# EAGLE library part 61302021121 (library Board-to-Board (rev18a))
WR-PHD 2.54mm Dual Pin Header, 20 Pins =>Code : Con_BTB_PHD_2.54_2_61302021121 <http://katalog.we-online.de/media/images/eican/Con_BTB_PHD_2.54_2_6130xx21121_pf2.jpg> Details see: http://katalog.we-online.de/en/em/613_0xx_211_21 Created 2014-05-29, Karrer Zheng 2014 (C) Würth Elektronik
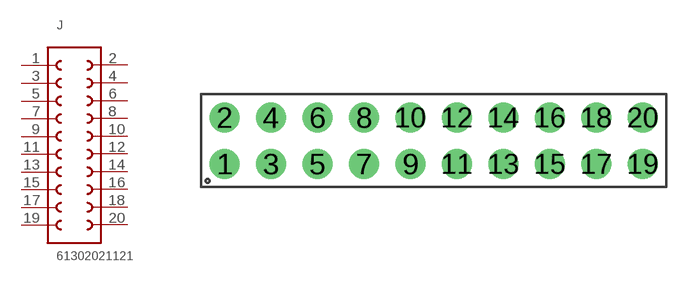
[diagram p25: symbol with the pads of 61302021121; footprint 61302021121]

Designator prefix J

## 61302021121  [61302021121]
1  1  pas
2  20  pas
3  2  pas
4  19  pas
5  3  pas
6  18  pas
7  4  pas
8  17  pas
9  5  pas
10  16  pas
11  6  pas
12  15  pas
13  7  pas
14  14  pas
15  8  pas
16  13  pas
17  9  pas
18  12  pas
19  10  pas
20  11  pas

## Footprint 61302021121 (pad centres in mm)
WR-PHD 2.54mm Dual Pin Header, 20 Pins
drill 1.1: 1 -11.43,-1.27; 2 -11.43,1.27; 3 -8.89,-1.27; 4 -8.89,1.27; 5 -6.35,-1.27; 6 -6.35,1.27; 7 -3.81,-1.27; 8 -3.81,1.27; 9 -1.27,-1.27; 10 -1.27,1.27; 11 1.27,-1.27; 12 1.27,1.27; 13 3.81,-1.27; 14 3.81,1.27; 15 6.35,-1.27; 16 6.35,1.27; 17 8.89,-1.27; 18 8.89,1.27; 19 11.43,-1.27; 20 11.43,1.27